# Altium schematic symbol library HO 25-PSP33 footp symb.SchLib: 1 symbol
Pins are listed as number, name and electrical type; pins without a type are passive.

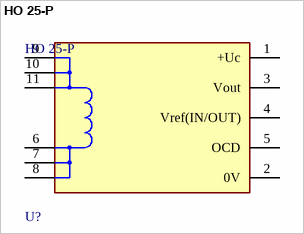
[diagram p0: symbol HO 25-P]

## HO 25-P
designator U?
Current Sensor 25A 1 Channel Hall Effect, Open Loop Bidirectional Module, Single Pass Through, 5V; NexarPartId: 49657997; Max Supply Voltage (DC): 3.46V; Accuracy: 1.4%; Linearity: 0.5%; Number of Channels: 1; Max Supply Current: 25mA; Min Supply Voltage (DC): 3.14V; Frequency: 250kHz; Response Time: 3.5µs; RoHS: Compliant; Polarity: Bidirectional; REACH SVHC: No SVHC; Min Operating Temperature: -40°C; Max Operating Temperature: 105°C; Current Sensing: 25A; Mount: Through Hole
footprint LEM_HO_25-P (Current Sensor 25A 1 Channel Hall Effect, Open Loop Bidirectional Module, Single Pass Through, 5V)
pins: 1 +Uc (power), 2 0V (power), 3 Vout, 4 Vref(IN/OUT), 5 OCD, 6 IN, 7 IN, 8 IN, 9 OUT, 10 OUT, 11 OUT